# Altium schematic symbol library 3.3 Buck.SchLib: 4 symbols
Pins are listed as number, name and electrical type; pins without a type are passive.

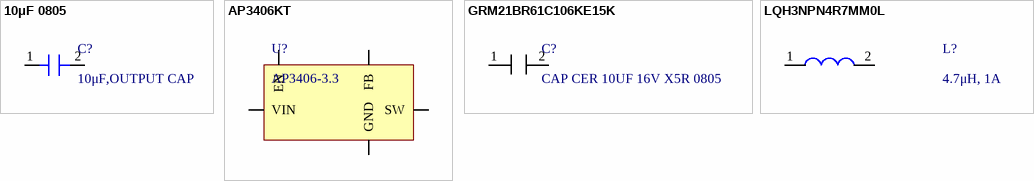
[diagram p0: symbols 10μF 0805 to LQH3NPN4R7MM0L]

## 10μF 0805
designator C?, comment 10μF,OUTPUT CAP
Multilayer Ceramic Capacitor, 10 uF, 16 V, ï¿½ 10%, X5R, 0805 [2012 Metric]; Manufacturer: Murata; Manufacturer Part Number: GRM21BR61C106KE15K; Material: 4241ConductorMaterial; Voltage Rating (DC): 16V; Supplier: Mouser; Supplier Part Number: 81-GRM21BR61C106KE5K; RoHS: Yes; Category: Ceramic Capacitors; Stock: 210689; Pricing: 1=0.13, 10=0.073, 50=0.073, 100=0.038, 1000=0.027, 10000=0.018 (USD); ComponentLink1URL: https://datasheet.ciiva.com/6270/partnumbering-e-01-6270407.pdf?src-supplier=Digikey; ComponentLink1Description: https://datasheet.ciiva.com/6270/partnumbering-e-01-6270407.pdf?src-supplier=Digikey; ComponentLink2URL: https://datasheet.ciiva.com/6270/partnumbering-e-01-6270410.pdf?src-supplier=Digikey; ComponentLink2Description: https://datasheet.ciiva.com/6270/partnumbering-e-01-6270410.pdf?src-supplier=Digikey; ComponentLink3URL: https://datasheet.ciiva.com/6270/partnumbering-e-01-6270412.pdf?src-supplier=Digikey; ComponentLink3Description: https://datasheet.ciiva.com/6270/partnumbering-e-01-6270412.pdf?src-supplier=Digikey; ComponentLink4URL: https://datasheet.ciiva.com/5414/product-5414934.pdf?src-supplier=Mouser; ComponentLink4Description: https://datasheet.ciiva.com/5414/product-5414934.pdf?src-supplier=Mouser
footprint 10µF 0805 (Footprint not found)
pins: 1, 2

## AP3406KT
designator U?, comment AP3406-3.3
footprint SOT-23
pins: 1 EN, 2 GND, 3 SW, 4 VIN, 5 FB

## GRM21BR61C106KE15K
designator C?, comment CAP CER 10UF 16V X5R 0805
Multilayer Ceramic Capacitor, 10 uF, 16 V, ï¿½ 10%, X5R, 0805 [2012 Metric]; Manufacturer: Murata; Manufacturer Part Number: GRM21BR61C106KE15K; Material: 4241ConductorMaterial; Supplier: Mouser; Supplier Part Number: 81-GRM21BR61C106KE5K; RoHS: Yes; Category: Ceramic Capacitors; Stock: 210689; Pricing: 1=0.13, 10=0.073, 50=0.073, 100=0.038, 1000=0.027, 10000=0.018 (USD); Voltage Rating (DC): 16V; ComponentLink1URL: https://datasheet.ciiva.com/6270/partnumbering-e-01-6270407.pdf?src-supplier=Digikey; ComponentLink1Description: https://datasheet.ciiva.com/6270/partnumbering-e-01-6270407.pdf?src-supplier=Digikey; ComponentLink2URL: https://datasheet.ciiva.com/6270/partnumbering-e-01-6270410.pdf?src-supplier=Digikey; ComponentLink2Description: https://datasheet.ciiva.com/6270/partnumbering-e-01-6270410.pdf?src-supplier=Digikey; ComponentLink3URL: https://datasheet.ciiva.com/6270/partnumbering-e-01-6270412.pdf?src-supplier=Digikey; ComponentLink3Description: https://datasheet.ciiva.com/6270/partnumbering-e-01-6270412.pdf?src-supplier=Digikey; ComponentLink4URL: https://datasheet.ciiva.com/5414/product-5414934.pdf?src-supplier=Mouser; ComponentLink4Description: https://datasheet.ciiva.com/5414/product-5414934.pdf?src-supplier=Mouser
footprint 10µF 0805 (Footprint not found)
pins: 1, 2

## LQH3NPN4R7MM0L
designator L?, comment 4.7μH, 1A
FIXED IND 4.7UH 0.88A 156MOHM; Manufacturer: Murata; Manufacturer Part Number: LQH3NPN4R7MM0L; Core Material: Ferrite; Saturation Current: 880mA; Tolerance: 20%; Shielding: Shielded; Self Resonant Frequency: 65MHz; Current Rating: 1.25A; DC Resistance (DCR): 156mR; Test Frequency: 1MHz; Supplier: Farnell; Supplier Part Number: 2470318; RoHS: Yes; Category: Fixed Inductors; Pricing: 1=0.31, 50=0.188, 100=0.171, 250=0.14, 500=0.124, 1000=0.109, 5000=0.0975 (GBP); Mounting Technology: Surface Mount; Case/Package: 1212; Case Code (Imperial): 1212; Min Operating Temperature: -40°C; Max Operating Temperature: 85°C; Packaging: Tape and Reel; Package Quantity: 1; Value: 4.7uH; Max DC Current: 1.25A; DC Current: 1.25A; Inductance Tolerance: 20%; Series: LQH3NP_M0; Length: 0.118inch; Width: 0.118inch; Height: 1.5mm; Height - Seated (Max): 0.059inch; Depth: 3.2mm; Military Standard: Not; Reach SVHC Compliant: No; Lead Free: Lead Free; RoHS Compliant: Yes; ComponentLink1URL: https://datasheet.ciiva.com/30489/0900766b81256151-30489978.pdf?src-supplier=Rs; ComponentLink1Description: https://datasheet.ciiva.com/30489/0900766b81256151-30489978.pdf?src-supplier=Rs; ComponentLink2URL: https://datasheet.ciiva.com/3080/l0075s0103lqh3np-m0-3080279.pdf?src-supplier=Avnet; ComponentLink2Description: https://datasheet.ciiva.com/3080/l0075s0103lqh3np-m0-3080279.pdf?src-supplier=Avnet; ComponentLink3URL: https://datasheet.ciiva.com/6705/l0075s0103lqh3np-m0-6705701.pdf?src-supplier=Digikey; ComponentLink3Description: https://datasheet.ciiva.com/6705/l0075s0103lqh3np-m0-6705701.pdf?src-supplier=Digikey
footprint 4.7µH, 1A
pins: 1, 2